# EAGLE library part PMEA-PIEFOUNDRY-32CHAN+REF (library pmea-piefoundry)
32 channel polymer microelectrode array (pMEA) connector with integrated reference; Connection requires 34 wirebond (soft-gold) pads for ultrasonic bump bonding 3/25/25 Kee Scholten PIE Foundry @ USC
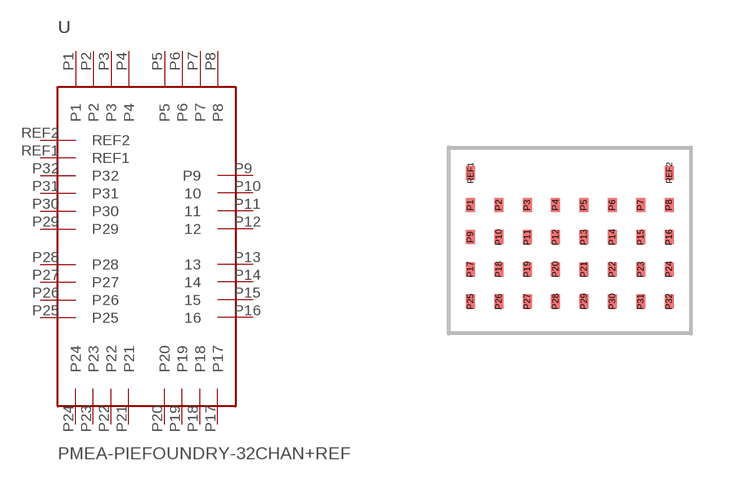
[diagram p1: symbol with the pads of PMEA-PIEFOUNDRY-32CHAN+REF; footprint PMEA-PIEFOUNDRY-32CHAN+REF]

Designator prefix -

## PMEA-PIEFOUNDRY-32CHAN+REF  [PMEA-PIEFOUNDRY-32CHAN+REF]
P1  P1
P2  P2
P3  P3
P4  P4
P5  P5
P6  P6
P7  P7
P8  P8
P9  P9
P10  10
P11  11
P12  12
P13  13
P14  14
P15  15
P16  16
P17  P17
P18  P18
P19  P19
P20  P20
P21  P21
P22  P22
P23  P23
P24  P24
P25  P25
P26  P26
P27  P27
P28  P28
P29  P29
P30  P30
P31  P31
P32  P32
REF1  REF1
REF2  REF2

## Footprint PMEA-PIEFOUNDRY-32CHAN+REF (pad centres in mm)
Parylene C Bond Pad for Standard PIE Foundry 32 Pad MEA Connector with Integrated Reference
smd 0.225 x 0.35: P1 -2.485,1.208; P2 -1.775,1.208; P3 -1.065,1.208; P4 -0.355,1.208; P5 0.355,1.208; P6 1.065,1.208; P7 1.775,1.208; P8 2.485,1.208; P9 -2.485,0.403; P10 -1.775,0.403; P11 -1.065,0.403; P12 -0.355,0.403; P13 0.355,0.403; P14 1.065,0.403; P15 1.775,0.403; P16 2.485,0.403; P17 -2.485,-0.403; P18 -1.775,-0.403; P19 -1.065,-0.403; P20 -0.355,-0.403; P21 0.355,-0.403; P22 1.065,-0.403; P23 1.775,-0.403; P24 2.485,-0.403; P25 -2.485,-1.208; P26 -1.775,-1.208; P27 -1.065,-1.208; P28 -0.355,-1.208; P29 0.355,-1.208; P30 1.065,-1.208; P31 1.775,-1.208; P32 2.485,-1.208; REF1 -2.485,2.013; REF2 2.485,2.013